# Altium footprint library Project_Oshinoko.PcbLib: 202 footprints (part 2 of 13)
Each footprint in its own frame and in the unit in brackets; x right, y up, seen from the top. Pads: shape width x height; smd on the part's side, far side on the other; paste and mask are expansions set on the pad; w line width, h text height; cw(c..) or ccw(c..) is an arc to the next point about the centre after c.
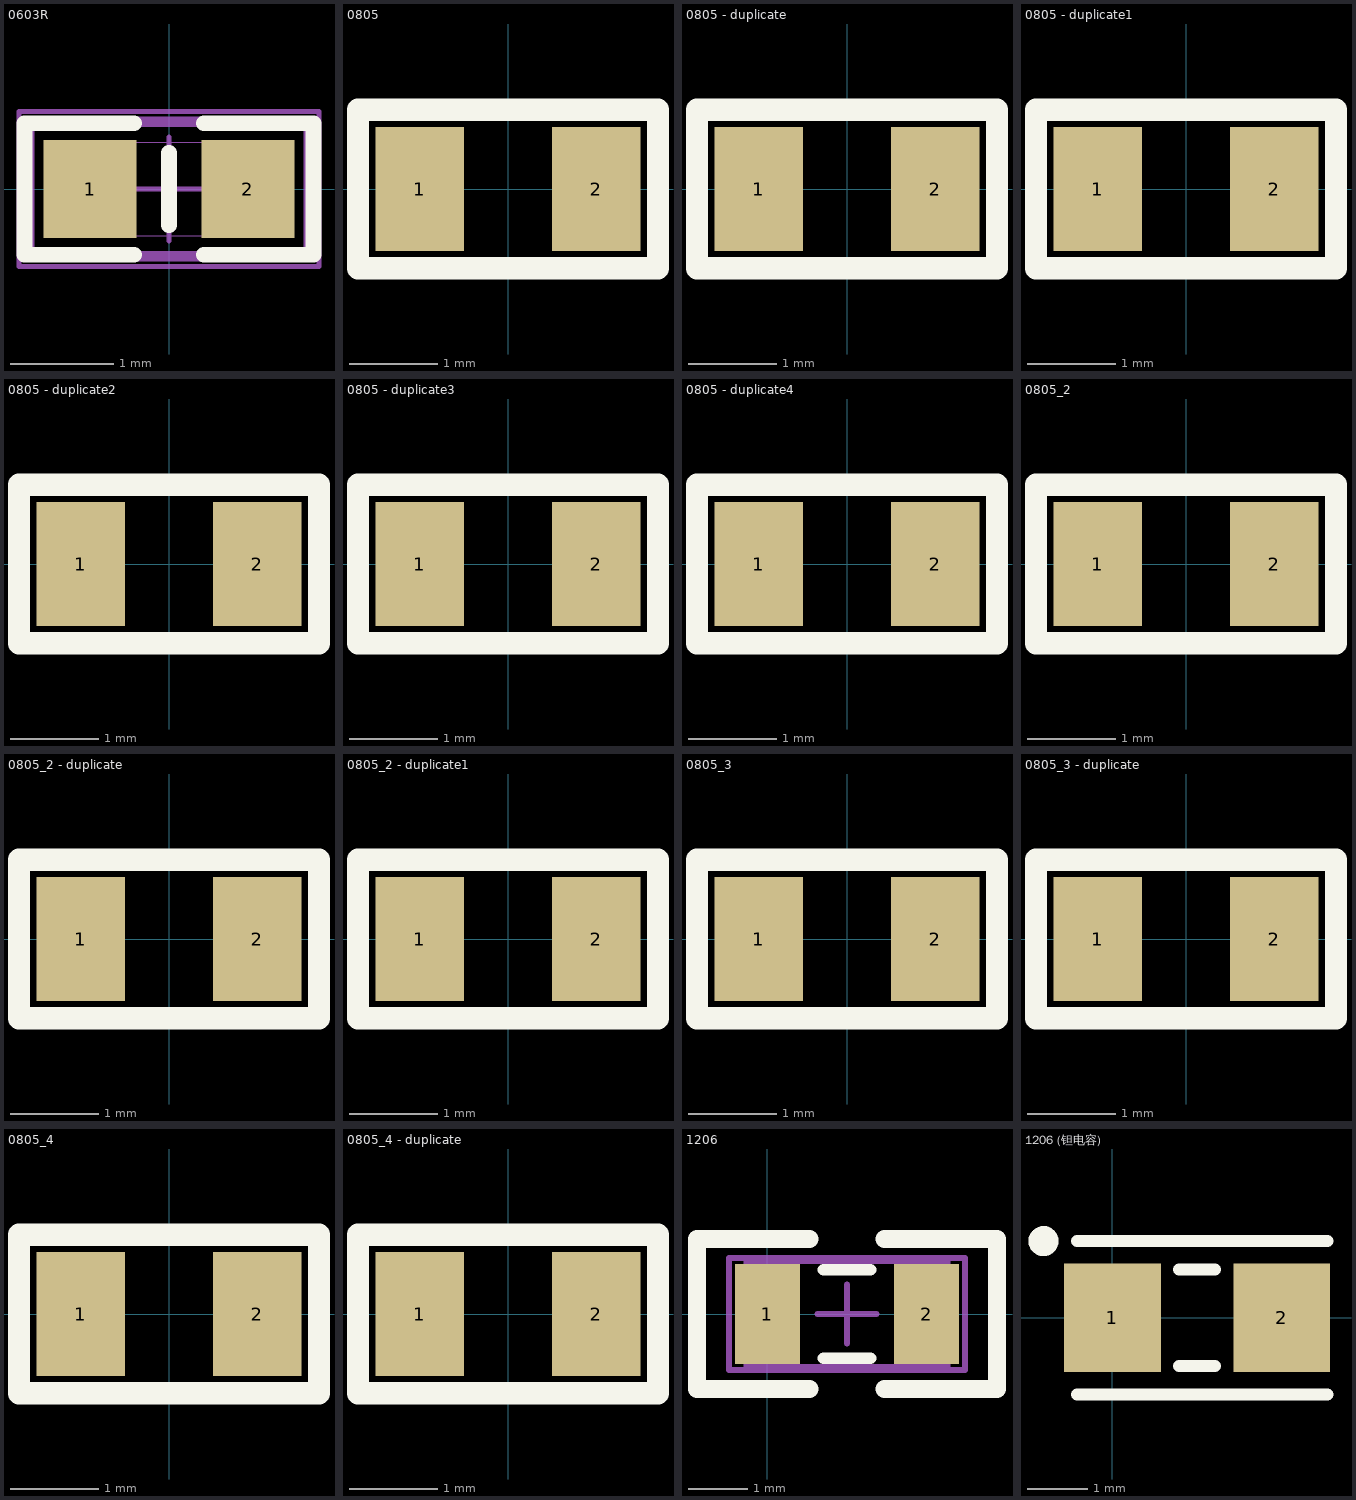
[diagram p1: the footprints below, top view; thin cyan lines are the x and y axes]

## 0603R [mm]
height 0.2
pads (2):
  rect 0.9x0.95 smd: 1(-0.762,0) 2(0.762,0)
Top Overlay:
  lines w0.152: -0.337,-0.635 -1.397,-0.635 -1.397,0.635 -0.337,0.635 ; 0,-0.35 0,0.35 ; 0.337,-0.635 1.397,-0.635 1.397,0.635 0.337,0.635
Mechanical 15:
  lines w0.1: -1.35,-0.65 -1.35,0.65 1.35,0.65 1.35,-0.65 -1.35,-0.65
  text "1" at -0.126,-0.345 h0.58
Mechanical 16:
  lines w0.001: -0.85,-0.45 -0.85,0.45 0.85,0.45 0.85,-0.45 -0.85,-0.45
  lines w0.05: -0.5,0 0.5,0 ; 0,-0.5 0,0.5 ; -1.45,-0.75 -1.45,0.75 1.45,0.75 1.45,-0.75 -1.45,-0.75
3D body "User Library-0603 SMD Resistor.STEP": height 0.3, standoff 0, extent -0.8,-0.4 0.8,0.4

## 0805 [mm]
pads (2):
  rect 1x1.4 smd: 1(-1,0) 2(1,0)
Top Overlay:
  lines w0.254: -1.7,-0.9 1.7,-0.9 1.7,0.9 -1.7,0.9 -1.7,0 -1.7,-0.9

## 0805 - duplicate [mm]
pads (2):
  rect 1x1.4 smd: 1(-1,0) 2(1,0)
Top Overlay:
  lines w0.254: -1.7,-0.9 1.7,-0.9 1.7,0.9 -1.7,0.9 -1.7,0 -1.7,-0.9

## 0805 - duplicate1 [mm]
pads (2):
  rect 1x1.4 smd: 1(-1,0) 2(1,0)
Top Overlay:
  lines w0.254: -1.7,-0.9 -1.7,0 -1.7,0.9 1.7,0.9 1.7,-0.9 -1.7,-0.9

## 0805 - duplicate2 [mm]
pads (2):
  rect 1x1.4 smd: 1(-1,0) 2(1,0)
Top Overlay:
  lines w0.254: -1.7,-0.9 1.7,-0.9 1.7,0.9 -1.7,0.9 -1.7,0 -1.7,-0.9

## 0805 - duplicate3 [mm]
pads (2):
  rect 1x1.4 smd: 1(-1,0) 2(1,0)
Top Overlay:
  lines w0.254: -1.7,-0.9 -1.7,0 -1.7,0.9 1.7,0.9 1.7,-0.9 -1.7,-0.9

## 0805 - duplicate4 [mm]
pads (2):
  rect 1x1.4 smd: 1(-1,0) 2(1,0)
Top Overlay:
  lines w0.254: -1.7,-0.9 -1.7,0 -1.7,0.9 1.7,0.9 1.7,-0.9 -1.7,-0.9

## 0805_2 [mm]
pads (2):
  rect 1x1.4 smd: 1(-1,0) 2(1,0)
Top Overlay:
  lines w0.254: -1.7,-0.9 1.7,-0.9 1.7,0.9 -1.7,0.9 -1.7,0 -1.7,-0.9

## 0805_2 - duplicate [mm]
pads (2):
  rect 1x1.4 smd: 1(-1,0) 2(1,0)
Top Overlay:
  lines w0.254: -1.7,-0.9 1.7,-0.9 1.7,0.9 -1.7,0.9 -1.7,0 -1.7,-0.9

## 0805_2 - duplicate1 [mm]
pads (2):
  rect 1x1.4 smd: 1(-1,0) 2(1,0)
Top Overlay:
  lines w0.254: -1.7,-0.9 1.7,-0.9 1.7,0.9 -1.7,0.9 -1.7,0 -1.7,-0.9

## 0805_3 [mm]
pads (2):
  rect 1x1.4 smd: 1(-1,0) 2(1,0)
Top Overlay:
  lines w0.254: -1.7,-0.9 1.7,-0.9 1.7,0.9 -1.7,0.9 -1.7,0 -1.7,-0.9

## 0805_3 - duplicate [mm]
pads (2):
  rect 1x1.4 smd: 1(-1,0) 2(1,0)
Top Overlay:
  lines w0.254: -1.7,-0.9 1.7,-0.9 1.7,0.9 -1.7,0.9 -1.7,0 -1.7,-0.9

## 0805_4 [mm]
pads (2):
  rect 1x1.4 smd: 1(-1,0) 2(1,0)
Top Overlay:
  lines w0.254: -1.7,-0.9 1.7,-0.9 1.7,0.9 -1.7,0.9 -1.7,0 -1.7,-0.9

## 0805_4 - duplicate [mm]
pads (2):
  rect 1x1.4 smd: 1(-1,0) 2(1,0)
Top Overlay:
  lines w0.254: -1.7,-0.9 1.7,-0.9 1.7,0.9 -1.7,0.9 -1.7,0 -1.7,-0.9

## 1206 [mm]
pads (2):
  rect 1.1x1.7 smd: 1(0,0) 2(2.7,0)
Top Overlay:
  lines w0.2: 0.95,-0.75 1.75,-0.75 ; 0.95,0.75 1.75,0.75
  lines w0.305: 0.715,-1.27 -1.19,-1.27 -1.19,1.27 0.715,1.27 ; 1.985,-1.27 3.89,-1.27 3.89,1.27 1.985,1.27
Mechanical 13:
  lines w0.1: -0.35,-0.9 3.05,-0.9 3.05,0.9 -0.35,0.9 -0.35,-0.9
Mechanical 15:
  lines w0.1: 0.85,0 1.85,0 ; 1.35,-0.5 1.35,0.5 ; -0.65,-0.95 3.35,-0.95 3.35,0.95 -0.65,0.95 -0.65,-0.95
3D body: height 1.3, standoff 0, extent -0.35,-0.9 3.05,0.9

## 1206 (钽电容) [mm]
pads (2):
  rect 1.6x1.8 smd: 1(0,0) 2(2.8,0)
Top Overlay:
  circle w0.25: c-1.141,1.27 r0.125
  lines w0.2: -0.585,-1.27 3.556,-1.27 ; -0.585,1.27 3.556,1.27 ; 1.1,-0.8 1.7,-0.8 ; 1.1,0.8 1.7,0.8